# Altium footprint library PcbLibv0.5.PcbLib: 21 footprints (part 2 of 2)
Each footprint in its own frame and in the unit in brackets; x right, y up, seen from the top. Pads: shape width x height; smd on the part's side, far side on the other; paste and mask are expansions set on the pad; w line width, h text height; cw(c..) or ccw(c..) is an arc to the next point about the centre after c.
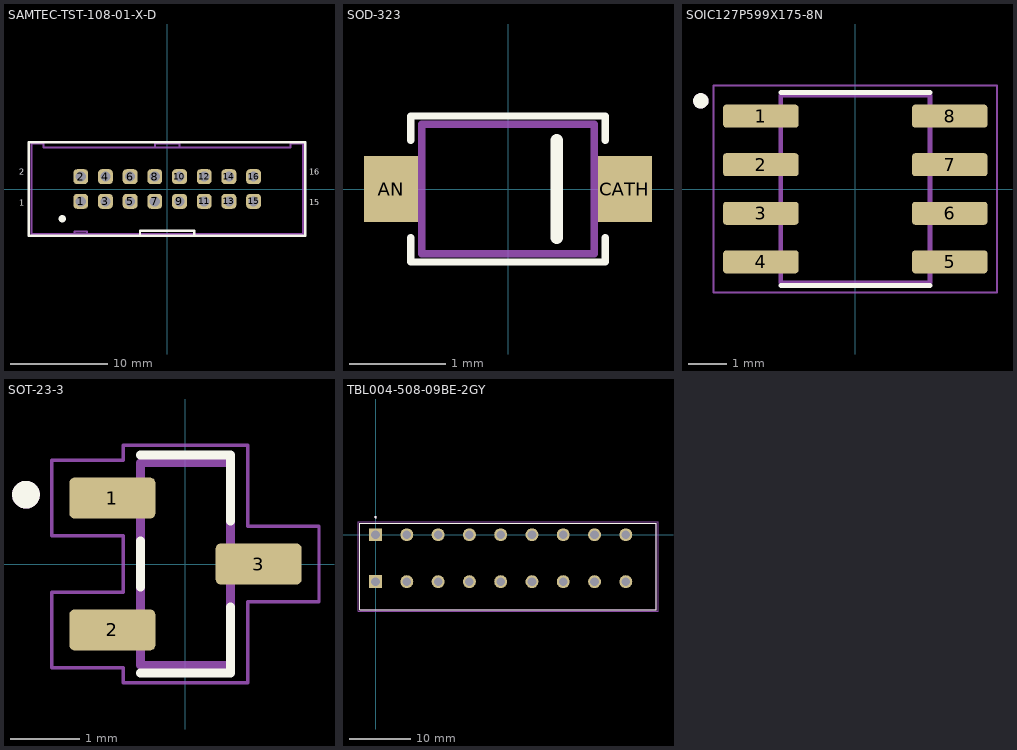
[diagram p1: the footprints below, top view; thin cyan lines are the x and y axes]

## SAMTEC-TST-108-01-X-D [mil]
pads (16):
  rrect50% 60x60 hole 41: 1(-350,-50) 2(-350,50) 3(-250,-50) 4(-250,50) 5(-150,-50) 6(-150,50) 7(-50,-50) 8(-50,50) 9(50,-50) 10(50,50) 11(150,-50) 12(150,50) 13(250,-50) 14(250,50) 15(350,-50) 16(350,50)
Top Overlay:
  lines w10: -110,-190 -110,-170 110,-170 110,-190 ; -560,-190 560,-190 560,190 -560,190 -560,-190
  lines w30: -425,-120 -425,-120
  text "2" at -600.04,50 h40
  text "1" at -600,-75 h40
  text "15" at 575,-74.56 h40
  text "16" at 575,50.44 h40
Mechanical 3:
  lines w8: -375,-183 -375,-173 -325,-173 -325,-183 ; -50,169 -50,184 50,184 50,169 ; -550,-183 -550,184 -500,184 -500,169 0,169 500,169 500,184 550,184 550,-183 -550,-183
3D body "TST-108-01-S-D-01.stp": height 350, standoff -130, extent -550,-175 550,190

## SOD-323 [mm]
pads (2):
  rect 0.56x0.69 smd: AN(-1.22,0) CATH(1.22,0)
Top Overlay:
  lines w0.076: -1.016,-0.508 -1.016,-0.762 1.016,-0.762 1.016,-0.508 ; -1.016,0.508 -1.016,0.762 1.016,0.762 1.016,0.508
  lines w0.127: 0.508,-0.508 0.508,0.508
Mechanical 13:
  lines w0.076: -0.9,-0.675 0.9,-0.675 0.9,0.675 -0.9,0.675 -0.9,-0.675
3D body "SOD-323.STEP": height 1.12, standoff -0.03, extent -1.338,-0.65 1.338,0.65

## SOIC127P599X175-8N [mm]
pads (8):
  rrect25% 1.97x0.6 smd: 1(-2.47,1.905) 2(-2.47,0.635) 3(-2.47,-0.635) 4(-2.47,-1.905) 5(2.47,-1.905) 6(2.47,-0.635) 7(2.47,0.635) 8(2.47,1.905)
Top Overlay:
  circle w0.2: c-4.04,2.305 r0.1
  lines w0.127: -1.95,-2.525 1.95,-2.525 ; -1.95,2.525 1.95,2.525
Mechanical 13:
  circle w0.2: c-4.04,2.305 r0.1
  lines w0.127: -1.95,-2.452 1.95,-2.452 1.95,2.452 -1.95,2.452 -1.95,-2.452
Mechanical 15:
  lines w0.05: -3.705,-2.702 3.705,-2.702 3.705,2.702 -3.705,2.702 -3.705,-2.702
3D body "p122M31.STEP": height 1.74, standoff -0.01, extent -2.997,-2.451 2.997,2.451

## SOT-23-3 [mm]
pads (3):
  rrect25% 1.24x0.59 smd: 1(-1.055,0.95) 2(-1.055,-0.95) 3(1.055,0)
Top Overlay:
  circle w0.2: c-2.3,1 r0.1
  lines w0.127: -0.65,-1.57 0.65,-1.57 0.65,-0.615 ; -0.65,-0.33 -0.65,0.33 ; -0.65,1.57 0.65,1.57 0.65,0.615
Mechanical 13:
  circle w0.2: c-2.3,1 r0.1
  lines w0.127: -0.65,-1.46 0.65,-1.46 0.65,1.46 -0.65,1.46 -0.65,-1.46
Mechanical 15:
  lines w0.05: -1.925,-1.495 -1.925,-0.405 -0.9,-0.405 -0.9,0.405 -1.925,0.405 -1.925,1.495 -0.9,1.495 -0.9,1.71 0.9,1.71 0.9,0.545 1.925,0.545 1.925,-0.545 0.9,-0.545 0.9,-1.71 -0.9,-1.71 -0.9,-1.495 -1.925,-1.495
3D body "SOT-23-3.STEP": height 1.09, standoff -0.03, extent -1.185,-1.46 1.185,1.46

## TBL004-508-09BE-2GY [mm]
pads (18):
  rect 2.1x2.1 hole 1.4: 1_A(0,0) 1_B(0,-7.62)
  round 2.1 hole 1.4: 2_A(5.08,0) 2_B(5.08,-7.62) 3_A(10.16,0) 3_B(10.16,-7.62) 4_A(15.24,0) 4_B(15.24,-7.62) 5_A(20.32,0) 5_B(20.32,-7.62) 6_A(25.4,0) 6_B(25.4,-7.62) 7_A(30.48,0) 7_B(30.48,-7.62) 8_A(35.56,0) 8_B(35.56,-7.62) 9_A(40.64,0) 9_B(40.64,-7.62)
Top Overlay:
  circle w0.2: c0,2.85 r0.1
  lines w0.127: -2.6,-12.2 45.62,-12.2 45.62,1.85 -2.6,1.85 -2.6,-12.2
Mechanical 13:
  circle w0.2: c0,2.85 r0.1
  lines w0.127: -2.6,-12.2 45.62,-12.2 45.62,1.85 -2.6,1.85 -2.6,-12.2
Mechanical 15:
  lines w0.05: -2.85,-12.45 -2.85,2.1 45.87,2.1 45.87,-12.45 -2.85,-12.45
3D body "CUI_DEVICES_TBL004-508-09BE-2GY.step": height 13.3, standoff -3.5, extent -2.6,-12.2 45.62,1.85